# EAGLE library part FPC-20WAY (library pimoroni-fpc)
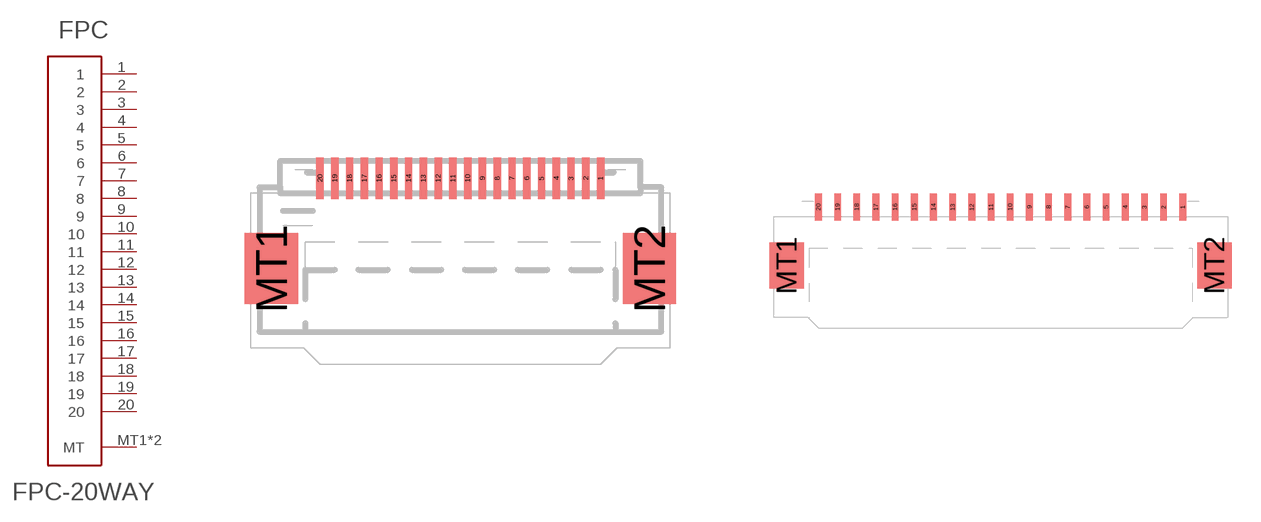
[diagram p15: symbol with the pads of FPC-0.5MM-20WAY; footprints FPC-0.5MM-20WAY, FPC-1.0MM-20WAY]

Designator prefix FPC

## FPC-20WAY0.5  [FPC-0.5MM-20WAY]
1  1
2  2
3  3
4  4
5  5
6  6
7  7
8  8
9  9
10  10
11  11
12  12
13  13
14  14
15  15
16  16
17  17
18  18
19  19
20  20
MT1  MT
MT2  MT

## FPC-20WAY1.0  [FPC-1.0MM-20WAY]
Pads as for FPC-0.5MM-20WAY

## Footprint FPC-0.5MM-20WAY (pad centres in mm)
smd 0.25 x 1.4: 1 4.75,0.7; 2 4.25,0.7; 3 3.75,0.7; 4 3.25,0.7; 5 2.75,0.7; 6 2.25,0.7; 7 1.75,0.7; 8 1.25,0.7; 9 0.75,0.7; 10 0.25,0.7; 11 -0.25,0.7; 12 -0.75,0.7; 13 -1.25,0.7; 14 -1.75,0.7; 15 -2.25,0.7; 16 -2.75,0.7; 17 -3.25,0.7; 18 -3.75,0.7; 19 -4.25,0.7; 20 -4.75,0.7
smd 1.8 x 2.4: MT1 -6.4,-2.35; MT2 6.4,-2.35

## Footprint FPC-1.0MM-20WAY (pad centres in mm)
smd 0.35 x 1.4: 1 9.5,0.7; 2 8.5,0.7; 3 7.5,0.7; 4 6.5,0.7; 5 5.5,0.7; 6 4.5,0.7; 7 3.5,0.7; 8 2.5,0.7; 9 1.5,0.7; 10 0.5,0.7; 11 -0.5,0.7; 12 -1.5,0.7; 13 -2.5,0.7; 14 -3.5,0.7; 15 -4.5,0.7; 16 -5.5,0.7; 17 -6.5,0.7; 18 -7.5,0.7; 19 -8.5,0.7; 20 -9.5,0.7
smd 1.8 x 2.4: MT1 -11.15,-2.35; MT2 11.15,-2.35